# Altium schematic symbol library DB.Schlib: 1 symbol
Pins are listed as number, name and electrical type; pins without a type are passive.

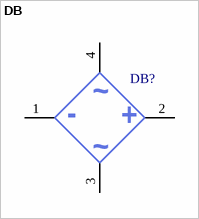
[diagram p0: symbol DB]

## DB
designator DB?  (value not drawn)
pins: 1 -, 2 +, 3 Sin, 4 Sin
text: ~